# EAGLE library part ESP8266 (library esp8266)
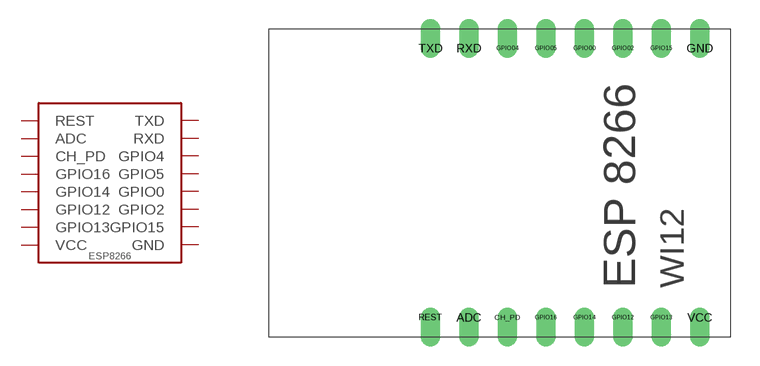
[diagram p0: symbol with the pads of WI12; footprint WI12]

Designator prefix -

## ESP8266WI12  [WI12]
ADC  ADC
CH_PD  CH_PD
GND  GND
GPIO00  GPIO0
GPIO02  GPIO2
GPIO04  GPIO4
GPIO05  GPIO5
GPIO12  GPIO12
GPIO13  GPIO13
GPIO14  GPIO14
GPIO15  GPIO15
GPIO16  GPIO16
REST  REST
RXD  RXD
TXD  TXD
VCC  VCC  pwr

## Footprint WI12 (pad centres in mm)
ESP8266 WI12 package
drill 0.5 pad 0.813 offset: ADC 10.4,1; CH_PD 12.4,1; GND 22.4,15; GPIO00 16.4,15; GPIO02 18.4,15; GPIO04 12.4,15; GPIO05 14.4,15; GPIO12 18.4,1; GPIO13 20.4,1; GPIO14 16.4,1; GPIO15 20.4,15; GPIO16 14.4,1; REST 8.4,1; RXD 10.4,15; TXD 8.4,15; VCC 22.4,1